# EAGLE library part 4053-DIP16 (library ece3724)
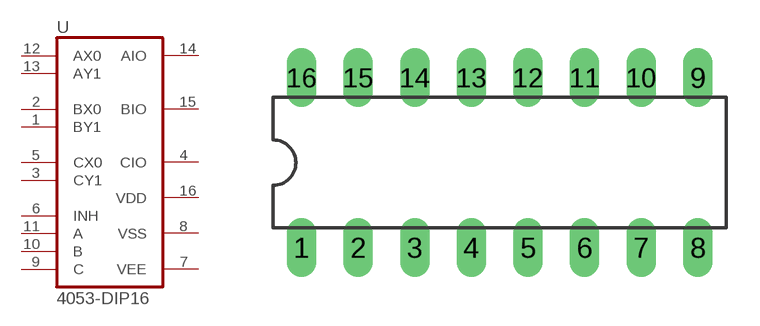
[diagram p5: symbol with the pads of DIL16; footprint DIL16]

Designator prefix -

## 4053-DIP16  [DIL16]
1  BY1
2  BX0
3  CY1
4  CIO
5  CX0
6  INH  in
7  VEE  pwr
8  VSS  pwr
9  C  in
10  B  in
11  A  in
12  AX0
13  AY1
14  AIO
15  BIO
16  VDD  pwr

## Footprint DIL16 (pad centres in mm)
drill 0.813 long: 1 -8.89,-3.81; 2 -6.35,-3.81; 3 -3.81,-3.81; 4 -1.27,-3.81; 5 1.27,-3.81; 6 3.81,-3.81; 7 6.35,-3.81; 8 8.89,-3.81; 9 8.89,3.81; 10 6.35,3.81; 11 3.81,3.81; 12 1.27,3.81; 13 -1.27,3.81; 14 -3.81,3.81; 15 -6.35,3.81; 16 -8.89,3.81